# EAGLE library part DAVID-HANDY_ON_NCN4555 (library NCN4555)
ON NCN4555
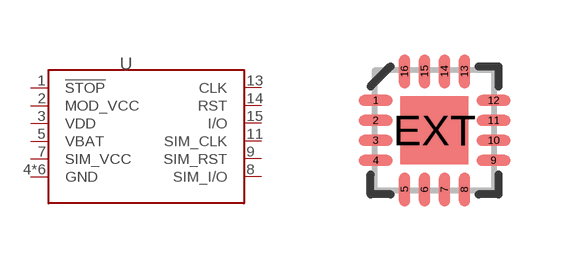
[diagram p0: symbol with the pads of DAVID-HANDY_QFN16-3X3MM; footprint DAVID-HANDY_QFN16-3X3MM]

Designator prefix U

## DAVID-HANDY_ON_NCN4555DEFAULT  [DAVID-HANDY_QFN16-3X3MM]
1  !STOP
2  MOD_VCC
3  VDD
4  GND
5  VBAT
6  GND
7  SIM_VCC
8  SIM_I/O
9  SIM_RST
10  GND
11  SIM_CLK
12  GND
13  CLK
14  RST
15  I/O
16  GND
EXT  GND

## Footprint DAVID-HANDY_QFN16-3X3MM (pad centres in mm)
3mm x 3mm QFN 16 pin
smd 0.85 x 0.28: 1 -1.475,0.75; 2 -1.475,0.25; 3 -1.475,-0.25; 4 -1.475,-0.75; 9 1.475,-0.75; 10 1.475,-0.25; 11 1.475,0.25; 12 1.475,0.75
smd 0.28 x 0.85: 5 -0.75,-1.475; 6 -0.25,-1.475; 7 0.25,-1.475; 8 0.75,-1.475; 13 0.75,1.475; 14 0.25,1.475; 15 -0.25,1.475; 16 -0.75,1.475
smd 1.7 x 1.7: EXT 0,0